# Altium footprint library VaneControl_v3.PcbLib: 41 footprints (part 2 of 3)
Each footprint in its own frame and in the unit in brackets; x right, y up, seen from the top. Pads: shape width x height; smd on the part's side, far side on the other; paste and mask are expansions set on the pad; w line width, h text height; cw(c..) or ccw(c..) is an arc to the next point about the centre after c.
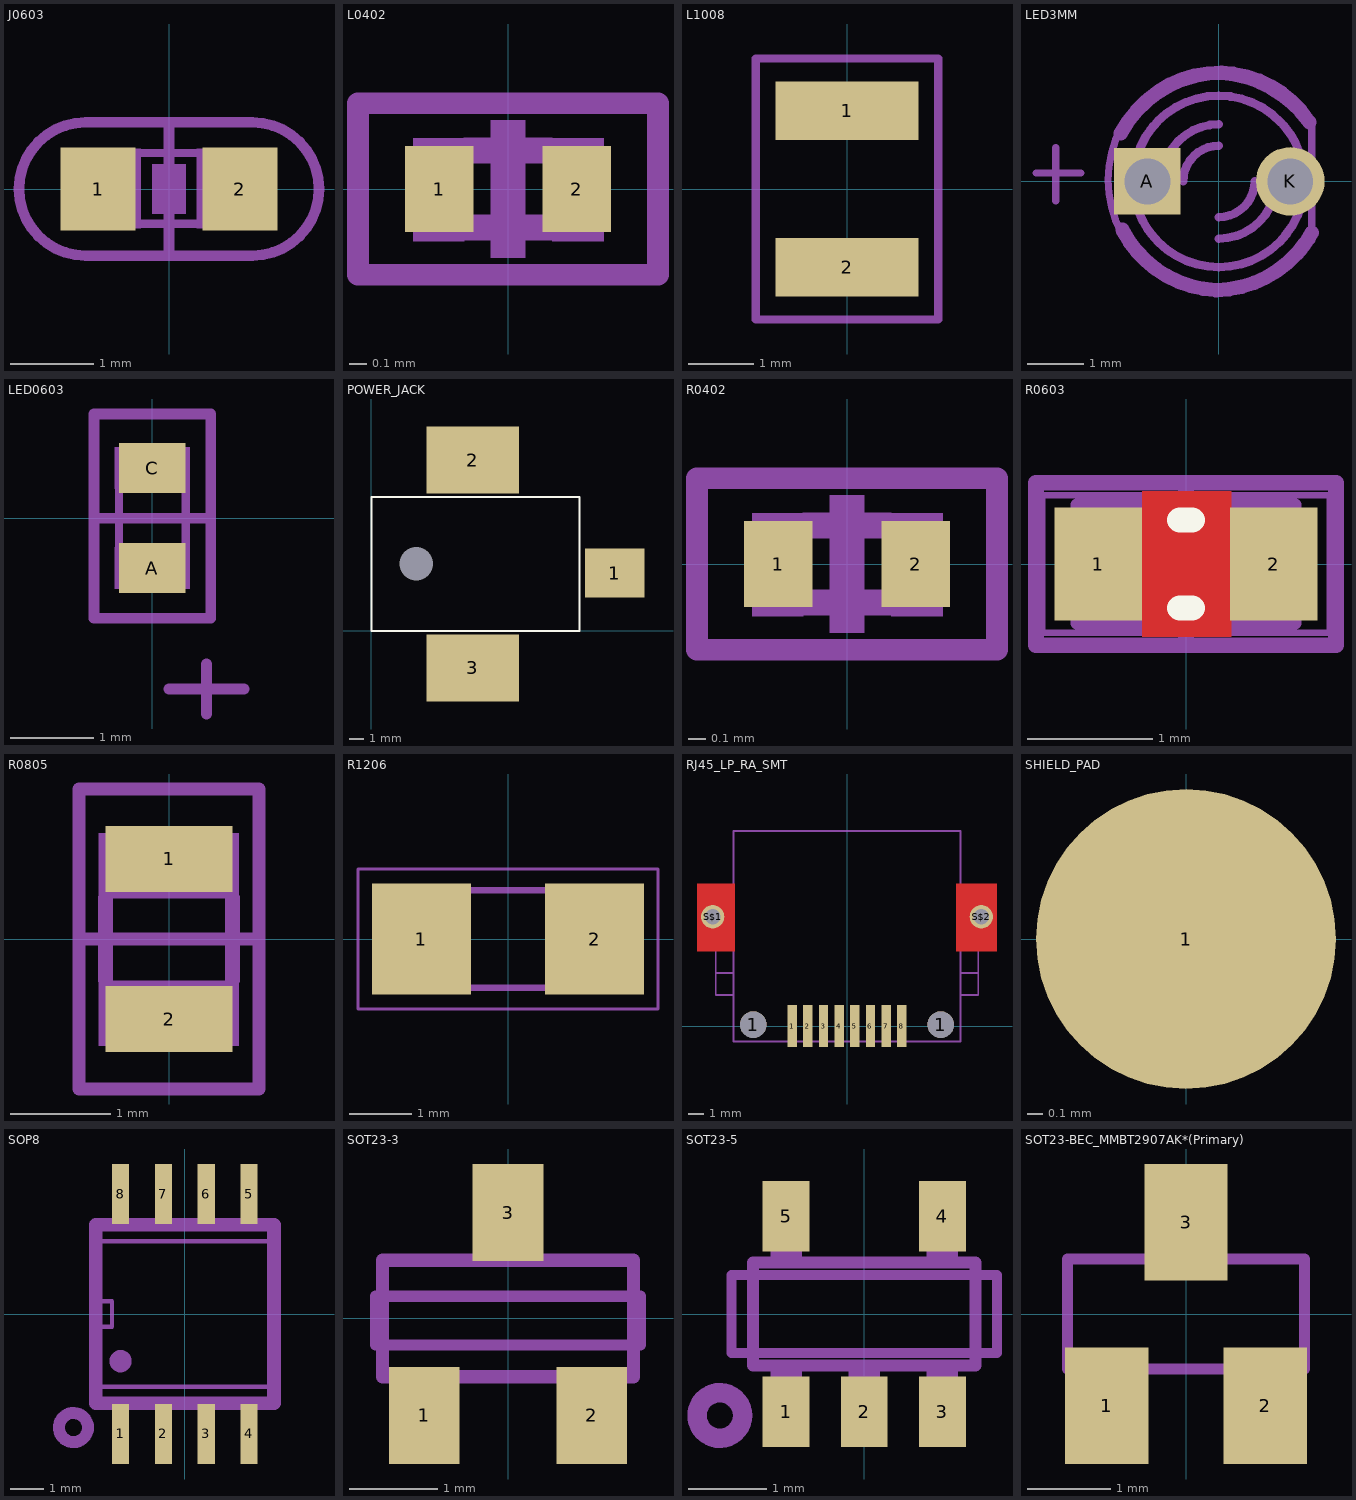
[diagram p1: the footprints below, top view; thin cyan lines are the x and y axes]

## J0603 [mm]
pads (2):
  rect 0.9x1 smd: 1(-0.85,0) 2(0.85,0)
Mechanical 8:
  region: -0.838,-0.47 -0.838,0.48 -0.338,0.48 -0.338,-0.47
  region: 0.33,-0.47 0.33,0.48 0.83,0.48 0.83,-0.47
  lines w0.102: -0.356,-0.419 0.356,-0.419 ; -0.356,0.432 0.356,0.432
Mechanical 22:
  lines w0.127: 0,-0.8 -1,-0.8 cw(c-1,0) -1.8,0 cw(c-1,0) -1,0.8 0,0.8 ; 0,-0.8 1,-0.8 ccw(c1,0) 1.8,0 ccw(c1,0) 1,0.8 0,0.8 ; 0,-0.8 0,0.8
Mechanical 26:
  region: -0.2,-0.3 -0.2,0.3 0.2,0.3 0.2,-0.3

## L0402 [mm]
pads (2):
  rect 0.4x0.5 smd: 1(-0.4,0) 2(0.4,0)
Mechanical 8:
  region: -0.554,-0.305 -0.554,0.295 -0.254,0.295 -0.254,-0.305
  region: 0.259,-0.305 0.259,0.295 0.559,0.295 0.559,-0.305
  lines w0.152: -0.245,-0.224 0.245,-0.224 ; -0.245,0.224 0.245,0.224
Mechanical 22:
  lines w0.127: -0.875,-0.5 0.875,-0.5 0.875,0.5 -0.875,0.5 -0.875,-0.5
Mechanical 26:
  region: -0.1,-0.4 -0.1,0.4 0.1,0.4 0.1,-0.4

## L1008 [mm]
pads (2):
  rect 2.2x0.9 smd: 1(0,1.2) 2(0,-1.2)
Mechanical 22:
  lines w0.127: -1.4,-2 1.4,-2 1.4,2 -1.4,2 -1.4,-2

## LED3MM [mil]
pads (2):
  rect 46.48x46.48 / inner rect 60x60 / far side rect 46.48x46.48 hole 32: A(-50,0)
  round 48 / inner round 60 / far side round 48 hole 32: K(50,0)
Mechanical 8:
  lines w5: 64.96,-41.34 cw(c0,0.98) 64.96,43.31 64.96,-41.34
  lines w6: -48,36 cw(c0,0) 0,60 cw(c-0.01,0) 48.82,34.87 ; -47.36,-36.83 ccw(c0.01,0) 0,-60 ccw(c-0.01,0) 47.36,-36.83 ; -46.09,38.41 ccw(c0,-0.01) -60,0 ccw(c0,-0.01) -44.85,-39.86 ; -40,0 cw(c0,0) 0,40 ; -25,0 cw(c0,0) 0,25 ; 0,-40 ccw(c0,0) 40,0 ; 0,-25 ccw(c0,0) 25,0 ; 45.56,39.05 cw(c0,0.01) 60,0 cw(c0,0.01) 46.09,-38.41
Mechanical 22:
  lines w5: -127.95,5.91 -96.46,5.91 ; -114.17,-13.78 -114.17,23.62
  lines w10: -68.62,33.71 cw(c1.97,-3.94) 1.97,76.06 cw(c-4.33,-6.9) 63.43,41.37 ; -67.49,-33.79 ccw(c1.69,1.53) -1.97,-76.06 ccw(c-3.06,1.71) 65.01,-35.93

## LED0603 [mil]
pads (2):
  rect 31.5x23.62 smd: A(0,-23.62) C(0,23.62)
Mechanical 8:
  circle w2: c-13.78,24.61 r2.95
  region: 6.89,-25.59 6.89,-21.65 10.83,-21.65 10.83,-25.59
  region: -10.83,-25.59 -10.83,-21.65 -6.89,-21.65 -6.89,-25.59
  region: -10.83,-22.64 -10.83,-13.78 10.83,-13.78 10.83,-22.64
  region: 9.84,-33.46 9.84,-13.78 17.72,-13.78 17.72,-33.46
  region: -17.72,-33.46 -17.72,-13.78 -9.84,-13.78 -9.84,-33.46
  region: -17.72,13.78 -17.72,22.64 17.72,22.64 17.72,13.78
  region: 9.84,21.65 9.84,33.46 17.72,33.46 17.72,21.65
  region: -17.72,13.78 -17.72,28.54 -15.75,28.54 -15.75,13.78
  region: -10.83,21.65 -10.83,23.62 -8.86,23.62 -8.86,21.65
  region: -17.72,27.56 -17.72,33.46 -9.84,33.46 -9.84,27.56
  lines w2: -10.83,-32.48 cw(c0,-32.48) 10.83,-32.48
  lines w4: -15.75,-13.78 -15.75,14.76 ; -11.81,31.5 ccw(c0,32.53) 11.81,31.5 ; 15.75,-13.78 15.75,13.78
Mechanical 22:
  lines w5: 7.87,-80.71 43.31,-80.71 ; 25.59,-92.52 25.59,-68.9 ; -27.56,0 27.56,0 ; -27.56,0 -27.56,-47.24 27.56,-47.24 27.56,0 ; -27.56,0 -27.56,49.21 27.56,49.21 27.56,0

## POWER_JACK [mm]
pads (4):
  rect 4x3.3 smd: 1(16.358,3.886)
  rect 6.2x4.5 smd: 2(6.807,11.481) 3(6.807,-2.489)
  rect 1.1x1.1 hole 2.25: ""(3,4.5)
Top Overlay:
  lines w0.127: 0,0 13.995,0 13.995,8.992 0,8.992 0,0
3D body "3D Model.step": height 11.2, standoff -1.4, extent -0.076,-3.13 17.024,12.07

## R0402 [mm]
pads (2):
  rect 0.4x0.5 smd: 1(-0.4,0) 2(0.4,0)
Mechanical 8:
  region: 0.259,-0.305 0.259,0.295 0.559,0.295 0.559,-0.305
  region: -0.554,-0.305 -0.554,0.295 -0.254,0.295 -0.254,-0.305
  lines w0.152: -0.245,-0.224 0.245,-0.224 ; -0.245,0.224 0.245,0.224
Mechanical 22:
  lines w0.127: -0.875,-0.5 -0.875,0.5 0.875,0.5 0.875,-0.5 -0.875,-0.5
Mechanical 26:
  region: -0.1,-0.4 -0.1,0.4 0.1,0.4 0.1,-0.4

## R0603 [mm]
pads (2):
  rect 0.7x0.9 smd: 1(-0.7,0) 2(0.7,0)
Top Layer:
  pour cut-out: 0.36,-0.58 -0.35,-0.58 -0.35,0.58 0.36,0.58
Top Overlay:
  lines w0.2: -0.05,-0.35 0.05,-0.35 ; -0.05,0.35 0.05,0.35
Mechanical 13:
  lines w0.1: -0.875,-0.475 -0.875,0.475 0.875,0.475 0.875,-0.475 -0.875,-0.475
Mechanical 15:
  lines w0.05: -0.475,0 0.475,0 ; 0,-0.475 0,0.475 ; -1.15,-0.55 -1.15,0.55 1.15,0.55 1.15,-0.55 -1.15,-0.55
Mechanical 22:
  lines w0.127: 0,-0.65 1.2,-0.65 1.2,0.65 0,0.65 ; 0,-0.65 -1.2,-0.65 -1.2,0.65 0,0.65 ; 0,-0.65 0,0.65
3D body "R0603.step": height 0.45, standoff 0, extent -0.8,-0.4 0.8,0.4

## R0805 [mil]
pads (2):
  rect 50x26 smd: 1(0,31.5) 2(0,-31.5)
Mechanical 8:
  region: 27.5,16 -27.61,16 -27.61,41.59 27.5,41.59
  region: 27.5,-42 -27.61,-42 -27.61,-16.41 27.5,-16.41
  lines w6: -25,-16.14 -25,16.14 ; 25,-16.14 25,16.14
Mechanical 22:
  lines w5: -35.43,0 -35.43,-59.06 35.43,-59.06 35.43,0 ; -35.43,0 -35.43,59.06 35.43,59.06 35.43,0 ; -35.43,0 35.43,0

## R1206 [mm]
pads (2):
  rect 1.6x1.8 smd: 1(-1.4,0) 2(1.4,0)
Mechanical 1:
  lines w0.102: -0.965,-0.787 0.965,-0.787 ; -0.965,0.787 0.965,0.787
Mechanical 4:
  lines w0.051: -2.423,-1.133 -2.423,1.133 2.423,1.133 2.423,-1.133 -2.423,-1.133

## RJ45_LP_RA_SMT [mm]
pads (12):
  round 1.7 hole 1.7 unplated: 1(-6,0.1) 1(6,0.1)
  rect 0.6x2.7 smd: 1(-3.5,0) 2(-2.5,0) 3(-1.5,0) 4(-0.5,0) 5(0.5,0) 6(1.5,0) 7(2.5,0) 8(3.5,0)
  round 1.5 / inner round 1.524 / far side round 1.5 hole 1: S$1(-8.6,7) S$2(8.6,7)
Top Layer:
  region: -9.6,4.8 -9.6,9.1 -7.2,9.1 -7.2,4.8
  region: 7,4.8 7,9.1 9.6,9.1 9.6,4.8
Mechanical 8:
  lines w0.102: -8.165,6.705 cw(c-8.216,7.008) -8.519,6.959 ; -8.155,8.474 -7.216,8.474 ; -8.151,8.476 ccw(c-8.226,8.083) -8.619,8.158 ccw(c-8.24,8.183) -8.215,7.804 -8.197,7.804 cw(c-8.122,7.455) -7.773,7.529 -7.773,7.451 cw(c-8.097,7.551) -8.197,7.227 -8.151,7.227 ccw(c-8.201,6.909) -8.519,6.959 ; -8.145,6.704 -8.177,6.704 cw(c-8.077,6.38) -7.753,6.479 -7.753,6.451 cw(c-8.127,6.501) -8.177,6.127 -8.231,6.127 ccw(c-8.231,5.759) -8.599,5.759 ccw(c-8.196,5.807) -8.145,5.405 -7.206,5.405 ; 7.306,8.596 8.245,8.596 cw(c8.296,8.193) 8.699,8.241 cw(c8.331,8.241) 8.331,7.873 8.277,7.873 ccw(c8.227,7.499) 7.853,7.549 7.853,7.521 ccw(c8.177,7.62) 8.277,7.296 8.245,7.296 ; 7.316,5.526 8.255,5.526 ; 8.251,5.524 ccw(c8.326,5.917) 8.719,5.842 ccw(c8.34,5.817) 8.315,6.196 8.297,6.196 cw(c8.222,6.545) 7.872,6.471 7.872,6.549 cw(c8.197,6.449) 8.297,6.773 8.251,6.773 ccw(c8.301,7.091) 8.619,7.041 ; 8.265,7.295 cw(c8.316,6.992) 8.619,7.041 ; -8.519,6.959 ccw(c-7.33,6.959) -8.519,6.959 ; -8.519,6.959 -8.519,6.959 ; 8.619,7.041 ccw(c7.43,7.041) 8.619,7.041 ; 8.619,7.041 8.619,7.041
  lines w0.127: -7.3,3.4 -8.4,3.4 ; 7.3,3.4 8.4,3.4 ; -8.4,3.4 -8.4,5.4 -7.25,5.4 ; -8.4,3.4 -8.4,2 -7.25,2 ; -7.25,2 -7.25,-1 0,-1 7.25,-1 7.25,2 ; -7.25,2 -7.25,5.4 ; -7.25,5.4 -7.25,12.5 7.25,12.5 7.25,5.4 ; 7.25,2 7.25,5.4 ; 7.25,2 8.4,2 8.4,3.4 ; 7.25,5.4 8.4,5.4 8.4,3.4

## SHIELD_PAD [mm]
pads (1):
  rrect100% 2x2 smd paste+0: 1(0,0)

## SOP8 [mil]
pads (8):
  rect 20x70 smd: 1(-75,-140) 2(-25,-140) 3(25,-140) 4(75,-140) 5(75,140) 6(25,140) 7(-25,140) 8(-75,140)
Mechanical 8:
  circle w16: c-75,-55 r5
  region: -82.87,110 -82.87,172.99 -67.13,172.99 -67.13,110
  region: -32.87,110 -32.87,172.99 -17.13,172.99 -17.13,110
  region: 17.13,110 17.13,172.99 32.87,172.99 32.87,110
  region: 67.13,110 67.13,172.99 82.87,172.99 82.87,110
  region: -82.87,-170 -82.87,-107.01 -67.13,-107.01 -67.13,-170
  region: -32.87,-170 -32.87,-107.01 -17.13,-107.01 -17.13,-170
  region: 17.13,-170 17.13,-107.01 32.87,-107.01 32.87,-170
  region: 67.13,-170 67.13,-107.01 82.87,-107.01 82.87,-170
  lines w16: -104,-104 104,-104 104,104 -104,104 -104,-104
Mechanical 22:
  circle w14: c-130,-132.5 r17
  lines w5: -105,-85 105,-85 105,85 -105,85 -105,15 -85,15 -85,-15 -90,-15 -105,-15 -105,-85

## SOT23-3 [mil]
pads (3):
  rect 31.5x43.31 smd: 1(-37.4,-43.31) 2(37.4,-43.31) 3(0,47.24)
Mechanical 8:
  region: -8.46,29.53 -8.46,49.21 8.46,49.21 8.46,29.53
  region: -45.87,-47.24 -45.87,-27.56 -28.94,-27.56 -28.94,-47.24
  region: 28.94,-47.24 28.94,-27.56 45.87,-27.56 45.87,-47.24
  lines w6: -56,-26 56,-26 56,26 -56,26 -56,-26
Mechanical 22:
  lines w5: -59.06,-11.81 59.06,-11.81 59.06,9.84 -59.06,9.84 -59.06,-11.81

## SOT23-5 [mm]
pads (5):
  rect 0.6x0.9 smd: 1(-1,-1.25) 2(0,-1.25) 3(1,-1.25) 4(1,1.25) 5(-1,1.25)
Mechanical 8:
  region: -1.2,-1.3 -1.2,-0.7 -0.8,-0.7 -0.8,-1.3
  region: -0.2,-1.3 -0.2,-0.7 0.2,-0.7 0.2,-1.3
  region: 0.8,-1.3 0.8,-0.7 1.2,-0.7 1.2,-1.3
  region: 0.8,0.7 0.8,1.3 1.2,1.3 1.2,0.7
  region: -1.2,0.7 -1.2,1.3 -0.8,1.3 -0.8,0.7
  lines w0.152: -1.422,-0.66 -1.422,0.66 1.422,0.66 1.422,-0.66 -1.422,-0.66
Mechanical 22:
  circle w0.25: c-1.85,-1.3 r0.292
  lines w0.127: -1.7,-0.5 -1.7,0.5 1.7,0.5 1.7,-0.5 -1.7,-0.5

## SOT23-BEC_MMBT2907AK*(Primary) [mm]
pads (3):
  rect 1x1.4 smd: 1(-0.95,-1.1) 2(0.95,-1.1) 3(0,1.1)
Mechanical 1:
  region: -1.173,-0.711 -0.711,-0.711 -0.711,-1.301 -1.173,-1.301
  region: 0.713,-0.711 1.168,-0.711 1.168,-1.299 0.713,-1.299
  region: -0.229,1.295 0.229,1.295 0.229,0.713 -0.229,0.713
  lines w0.127: -1.422,-0.66 -1.422,0.66 1.422,0.66 1.422,-0.66 -1.422,-0.66